# Altium footprint library stm32wenshidu.PcbLib: 16 footprints
Each footprint in its own frame and in the unit in brackets; x right, y up, seen from the top. Pads: shape width x height; smd on the part's side, far side on the other; paste and mask are expansions set on the pad; w line width, h text height; cw(c..) or ccw(c..) is an arc to the next point about the centre after c.
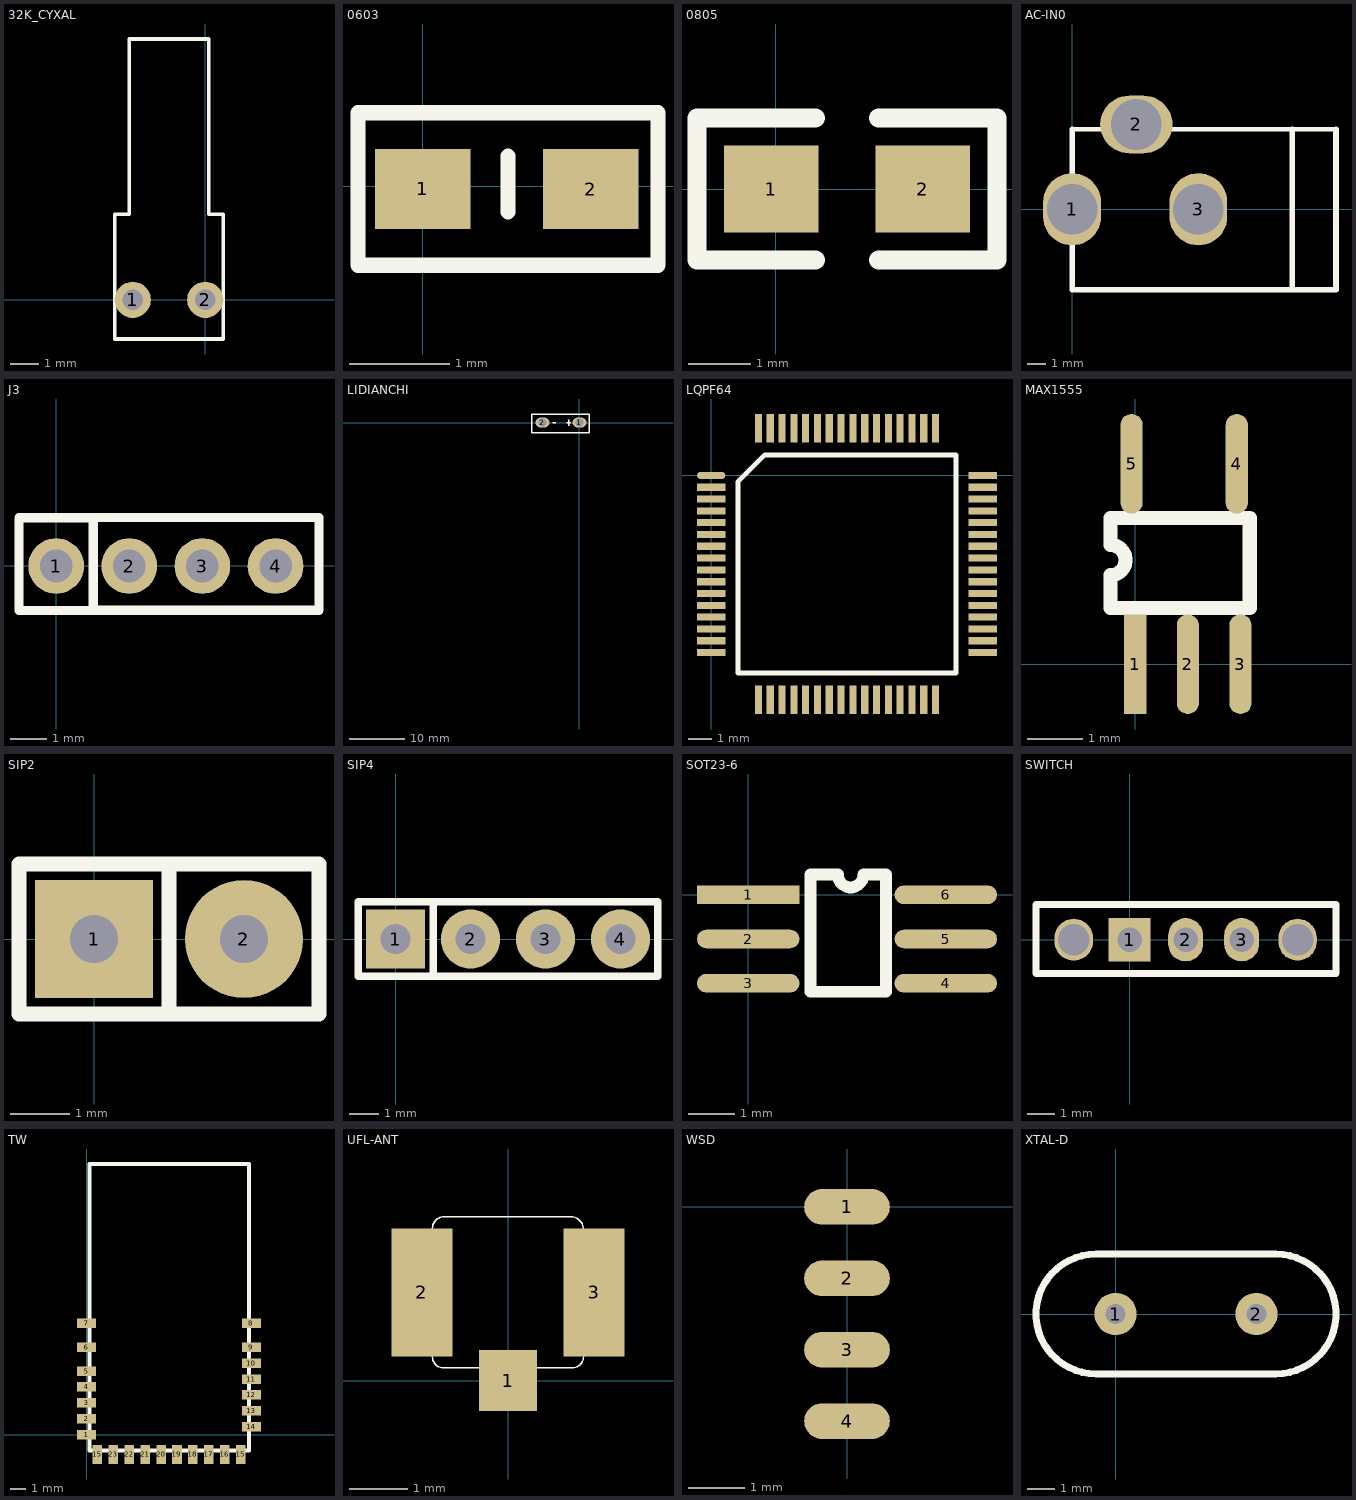
[diagram p0: the footprints below, top view; thin cyan lines are the x and y axes]

## 32K_CYXAL [mil]
pads (2):
  round 50 hole 28: 1(-100,0) 2(0,0)
Top Overlay:
  lines w5: -124.8,-54.13 -124.8,118.11 -105.12,118.11 -105.12,360.24 5.12,360.24 5.12,118.11 24.8,118.11 24.8,-54.13 -124.8,-54.13

## 0603 [mil]
pads (2):
  rect 37.5x31.5 smd: 1(0,-1) 2(66,-1)
Top Overlay:
  lines w6: 33.5,-10 33.5,12 ; -25.5,-31 -25.5,29 92.5,29 92.5,-31 -25.5,-31

## 0805 [mil]
pads (2):
  rect 60x55 smd: 1(-3,0) 2(93,0)
Top Overlay:
  lines w12: 25,-45 -50,-45 -50,45 25,45 ; 65,-45 140,-45 140,45 65,45

## AC-IN0 [mm]
pads (3):
  oval 3.2x4 hole 2.8: 1(0,0) 3(6.985,0)
  oval 4x3.2 hole 2.8: 2(3.556,4.699)
Top Overlay:
  lines w0.254: 0,4.445 5.461,4.445 14.605,4.445
  lines w0.305: 0,4.445 0,-4.445 14.605,-4.445 14.605,4.445 ; 12.192,-4.445 12.192,4.445

## J3 [mil]
pads (4):
  round 60 hole 35: 1(-0.05,-0.31) 2(78.69,-0.31) 3(157.43,-0.31) 4(236.17,-0.31)
Top Overlay:
  lines w10: 39.95,-48.31 40.26,-48 283,-48 283,52 40.26,52 39.95,51.69 ; 39.95,-48.31 -40.05,-48.31 -40.05,51.69 39.95,51.69 ; 39.95,-48.31 39.95,51.69

## LIDIANCHI [mil]
pads (2):
  oval 100x70 hole 60: 1(0,0) 2(-265,0)
Top Overlay:
  lines w10: -193,0 -169,0 ; -92,0 -61,0 ; -76,-23 -76,21 ; 69,59 69,-74 -342,-74 -342,61 69,61
Bottom Overlay:
  lines w10: 69,0 157.48,0 157.48,-2086.61 -1181.1,-2086.61 -1181.1,0 -342,0 ; -342,0 -342,-72.8 -340.8,-74 68.8,-74 69,-73.8 69,60.2 68.3,60.9 -342,60.9 -342,0

## LQPF64 [mm]
pads (64):
  oval 1.2x0.3 smd: 1(0,0)
  rect 1.2x0.3 smd: 2(0,-0.5) 3(0,-1) 4(0,-1.5) 5(0,-2) 6(0,-2.5) 7(0,-3) 8(0,-3.5) 9(0,-4) 10(0,-4.5) 11(0,-5) 12(0,-5.5) 13(0,-6) 14(0,-6.5) 15(0,-7) 16(0,-7.5) 33(11.5,-7.5) 34(11.5,-7) 35(11.5,-6.5) 36(11.5,-6) 37(11.5,-5.5) 38(11.5,-5) 39(11.5,-4.5) 40(11.5,-4) 41(11.5,-3.5) 42(11.5,-3) 43(11.5,-2.5) 44(11.5,-2) 45(11.5,-1.5) 46(11.5,-1) 47(11.5,-0.5) 48(11.5,0)
  rect 0.3x1.2 smd: 17(2,-9.5) 18(2.5,-9.5) 19(3,-9.5) 20(3.5,-9.5) 21(4,-9.5) 22(4.5,-9.5) 23(5,-9.5) 24(5.5,-9.5) 25(6,-9.5) 26(6.5,-9.5) 27(7,-9.5) 28(7.5,-9.5) 29(8,-9.5) 30(8.5,-9.5) 31(9,-9.5) 32(9.5,-9.5) 49(9.5,2) 50(9,2) 51(8.5,2) 52(8,2) 53(7.5,2) 54(7,2) 55(6.5,2) 56(6,2) 57(5.5,2) 58(5,2) 59(4.5,2) 60(4,2) 61(3.5,2) 62(3,2) 63(2.5,2) 64(2,2)
Top Overlay:
  lines w0.2: 1.135,-8.365 1.135,-0.27 2.27,0.865 10.365,0.865 10.365,-8.365 1.135,-8.365

## MAX1555 [mm]
pads (5):
  rect 0.4x1.8 smd: 1(0,0)
  oval 0.4x1.8 smd: 2(0.95,0) 3(1.9,0) 4(1.834,3.617) 5(-0.066,3.617)
Top Overlay:
  lines w0.254: -0.447,1.016 2.068,1.016 2.068,2.642 -0.447,2.642 -0.447,2.153 cw(c-0.447,1.88) -0.447,1.606 -0.447,1.016

## SIP2 [mm]
pads (2):
  rect 2x2 hole 0.813: 1(0,0)
  round 2 hole 0.813: 2(2.54,0)
Top Overlay:
  lines w0.254: 1.27,-1.27 1.27,1.27 ; -1.27,-1.27 -1.27,1.27 3.81,1.27 3.81,-1.27 -1.27,-1.27

## SIP4 [mm]
pads (4):
  rect 2x2 hole 1.016: 1(0,0)
  round 2 hole 1.016: 2(2.54,0) 3(5.08,0) 4(7.62,0)
Top Overlay:
  lines w0.254: 1.27,-1.27 1.27,1.27 ; -1.27,-1.27 8.89,-1.27 8.89,1.27 -1.27,1.27 -1.27,-1.27

## SOT23-6 [mm]
pads (6):
  rect 2.2x0.4 smd: 1(0,0)
  oval 2.2x0.4 smd: 2(0,-0.95) 3(0,-1.9) 4(4.242,-1.9) 5(4.242,-0.95) 6(4.242,0)
Top Overlay:
  lines w0.254: 1.336,-2.083 1.336,0.432 1.926,0.432 ccw(c2.2,0.432) 2.473,0.432 2.962,0.432 2.962,-2.083 1.336,-2.083

## SWITCH [mil]
pads (5):
  rect 60x62 hole 35: 1(0,0)
  oval 50x62 hole 35: 2(80,0) 3(160,0)
  oval 55x60 / inner round 0 / far side round 0 hole 45: ""(-80,0) ""(240,0)
Top Overlay:
  lines w10: -134,-48 -134,50 295,50 295,-48 -134,-48

## TW [mm]
pads (24):
  rect 1.2x0.6 smd: 1(0,0) 2(0,1) 3(0,2) 4(0,3) 5(0,4) 6(0,5.5) 7(0,7) 8(10.367,7) 9(10.367,5.5) 10(10.367,4.5) 11(10.367,3.5) 12(10.367,2.5) 13(10.367,1.5) 14(10.367,0.5)
  rect 0.6x1.2 smd: 15(0.685,-1.243) 15(9.685,-1.243) 16(8.685,-1.243) 17(7.685,-1.243) 18(6.685,-1.243) 19(5.685,-1.243) 20(4.685,-1.243) 21(3.685,-1.243) 22(2.685,-1.243) 23(1.685,-1.243)
Top Overlay:
  lines w0.254: 0.192,-1 10.192,-1 ; 0.197,-0.99 0.197,17.01 ; 0.197,17.019 10.197,17.019 ; 10.205,-0.99 10.205,17.01

## UFL-ANT [mm]
pads (3):
  rect 1x1.05 smd: 1(0,0)
  rect 1.05x2.2 smd: 2(-1.48,1.52) 3(1.48,1.52)
Top Overlay:
  lines w0.025: -1.3,0.41 ccw(c-1.11,0.41) -1.11,0.22 1.1,0.22 ccw(c1.1,0.42) 1.3,0.42 1.3,2.6 ccw(c1.08,2.6) 1.08,2.82 0,2.82 -1.1,2.82 ccw(c-1.1,2.62) -1.3,2.62 -1.3,0.41

## WSD [mil]
pads (4):
  oval 60x25 smd: 1(0,0) 2(0,-50) 3(0,-100) 4(0,-150)

## XTAL-D [mil]
pads (2):
  round 60 hole 28: 1(0,0) 2(200,0)
Top Overlay:
  lines w10: -28,-85.01 cw(c-28,0) -28,85.01 228,85.01 cw(c228,0) 228,-85.01 -28,-85.01